# Altium footprint library diode.PCBLIB: 206 footprints (part 6 of 13)
Each footprint in its own frame and in the unit in brackets; x right, y up, seen from the top. Pads: shape width x height; smd on the part's side, far side on the other; paste and mask are expansions set on the pad; w line width, h text height; cw(c..) or ccw(c..) is an arc to the next point about the centre after c.
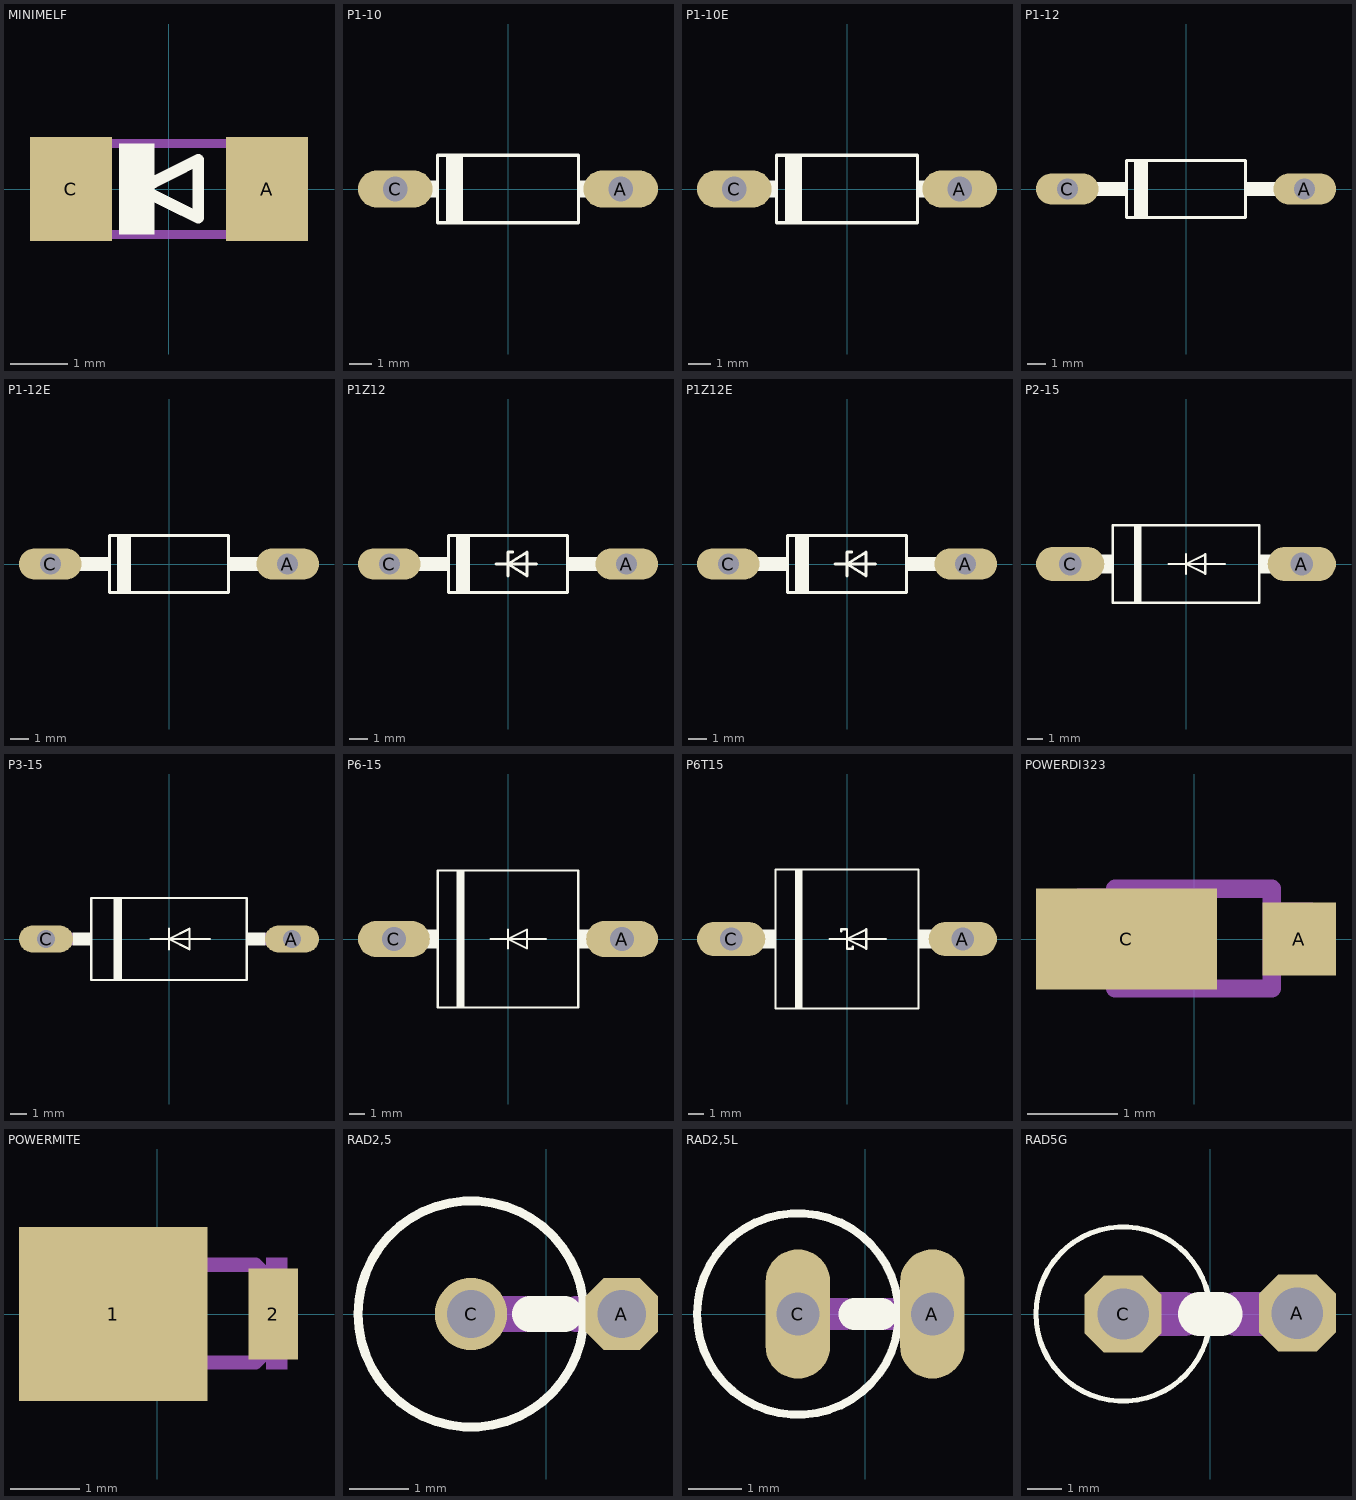
[diagram p5: the footprints below, top view; thin cyan lines are the x and y axes]

## MINIMELF [mil]
pads (2):
  rect 56x71 smd: A(67,0) C(-66.93,0)
Top Overlay:
  rectangle: -34,-31 -10,31
  lines w8: -19.68,0 20,20 20,-19.68 -19.68,0
Mechanical 2:
  text ">NAME" at -65,45 h77.5
Mechanical 4:
  text ">VALUE" at -65,-95 h77.5
Mechanical 16:
  rectangle: -73,-34 -51,34
  rectangle: 51,-34 73,34
  lines w6: -52,-31 52,-31 ; -52,31 52,31

## P1-10 [mil]
pads (2):
  oval 132x66 hole 44: A(200,0) C(-200,0)
Top Overlay:
  rectangle: -110,-60 -80,60
  rectangle: -155,-15 -125,15
  rectangle: 125,-15 155,15
  lines w6: -125,-60 125,-60 125,60 -125,60 -125,-60
Mechanical 2:
  text ">NAME" at -120,75 h77.5
Mechanical 4:
  text ">VALUE" at -125,-120 h77.5
Mechanical 16:
  lines w30: -200,0 -160,0 ; 160,0 200,0

## P1-10E [mil]
pads (2):
  oval 132x66 hole 44: A(200,0) C(-200,0)
Top Overlay:
  rectangle: -110,-60 -80,60
  rectangle: 125,-15 145,15
  rectangle: -145,-15 -125,15
  lines w6: -125,-60 125,-60 125,60 -125,60 -125,-60
Mechanical 2:
  text ">NAME" at -125,75 h77.5
Mechanical 4:
  text ">VALUE" at -125,-125 h77.5
Mechanical 16:
  lines w30: -200,0 -150,0 ; 150,0 200,0

## P1-12 [mil]
pads (2):
  oval 132x66 hole 44: A(250,0) C(-250,0)
Top Overlay:
  rectangle: -110,-60 -80,60
  rectangle: 125,-15 205,15
  rectangle: -205,-15 -125,15
  lines w6: -125,-60 125,-60 125,60 -125,60 -125,-60
Mechanical 2:
  text ">NAME" at -125,75 h77.5
Mechanical 4:
  text ">VALUE" at -125,-120 h77.5
Mechanical 16:
  lines w30: -250,0 -210,0 ; 210,0 250,0

## P1-12E [mil]
pads (2):
  oval 132x66 hole 44: A(250,0) C(-250,0)
Top Overlay:
  rectangle: -110,-60 -80,60
  rectangle: 125,-15 195,15
  rectangle: -195,-15 -125,15
  lines w6: -125,-60 125,-60 125,60 -125,60 -125,-60
Mechanical 2:
  text ">NAME" at -125,75 h77.5
Mechanical 4:
  text ">VALUE" at -125,-120 h77.5
Mechanical 16:
  lines w30: -250,0 -200,0 ; 200,0 250,0

## P1Z12 [mil]
pads (2):
  oval 132x66 hole 44: A(250,0) C(-250,0)
Top Overlay:
  rectangle: -110,-60 -80,60
  rectangle: 125,-15 205,15
  rectangle: -205,-15 -125,15
  lines w6: -25,0 0,0 ; 0,-25 0,0 ; 10,25 0,25 0,0 ; 60,0 0,0 ; 0,0 40,-25 40,25 0,0 ; -125,-60 125,-60 125,60 -125,60 -125,-60
Mechanical 2:
  text ">NAME" at -120,70 h77.5
Mechanical 4:
  text ">VALUE" at -120,-125 h77.5
Mechanical 16:
  lines w30: -250,0 -210,0 ; 210,0 250,0

## P1Z12E [mil]
pads (2):
  oval 132x66 hole 44: A(250,0) C(-250,0)
Top Overlay:
  rectangle: -110,-60 -80,60
  rectangle: 125,-15 195,15
  rectangle: -195,-15 -125,15
  lines w6: -25,0 0,0 ; 0,-25 0,0 ; 10,25 0,25 0,0 ; 60,0 0,0 ; 0,0 40,-25 40,25 0,0 ; -125,-60 125,-60 125,60 -125,60 -125,-60
Mechanical 2:
  text ">NAME" at -125,70 h77.5
Mechanical 4:
  text ">VALUE" at -125,-125 h77.5
Mechanical 16:
  lines w30: -250,0 -200,0 ; 200,0 250,0

## P2-15 [mil]
pads (2):
  oval 177x88.5 hole 59: A(300,0) C(-300,0)
Top Overlay:
  rectangle: -135,-100 -115,100
  rectangle: 190,-25 235,25
  rectangle: -235,-25 -190,25
  lines w6: -45,0 0,0 ; 0,-25 0,0 ; 0,25 0,0 ; 100,0 0,0 ; 0,0 50,25 50,-25 0,0 ; -190,-100 -190,100 190,100 190,-100 -190,-100
Mechanical 2:
  text ">NAME" at -189,111 h108.5
Mechanical 4:
  text ">VALUE" at -193,-185 h108.5
Mechanical 16:
  lines w50: -300,0 -245,0 ; 245,0 300,0

## P3-15 [mil]
pads (2):
  oval 132x66 hole 44: A(300,0) C(-300,0)
Top Overlay:
  rectangle: -135,-100 -115,100
  rectangle: 190,-16 235,16
  rectangle: -235,-16 -190,16
  lines w6: -45,0 0,0 ; 0,-25 0,0 ; 0,25 0,0 ; 100,0 0,0 ; 0,0 50,25 50,-25 0,0 ; -190,-100 -190,100 190,100 190,-100 -190,-100
Mechanical 2:
  text ">NAME" at -189,121 h108.5
Mechanical 4:
  text ">VALUE" at -193,-185 h108.5
Mechanical 16:
  lines w32: -300,0 -240,0 ; 240,0 300,0

## P6-15 [mil]
pads (2):
  oval 189x94.5 hole 63: A(300,0) C(-300,0)
Top Overlay:
  rectangle: -135,-180 -115,180
  rectangle: 185,-25 235,25
  rectangle: -235,-25 -185,25
  lines w6: -45,0 0,0 ; 0,-25 0,0 ; 0,25 0,0 ; 100,0 0,0 ; 0,0 50,25 50,-25 0,0 ; -185,-180 -185,180 185,180 185,-180 -185,-180
Mechanical 2:
  text ">NAME" at -184,191 h108.5
Mechanical 4:
  text ">VALUE" at -93,-130 h108.5
Mechanical 16:
  lines w50: -300,0 -245,0 ; 245,0 300,0

## P6T15 [mil]
pads (2):
  oval 177x88.5 hole 59: A(300,0) C(-300,0)
Top Overlay:
  rectangle: -135,-180 -115,180
  rectangle: 185,-25 235,25
  rectangle: -235,-25 -185,25
  lines w6: -45,0 0,0 ; -15,20 -15,25 0,25 0,0 ; 15,-20 15,-25 0,-25 0,0 ; 100,0 0,0 ; 0,0 50,25 50,-25 0,0 ; -185,-180 -185,180 185,180 185,-180 -185,-180
Mechanical 2:
  text ">NAME" at -184,191 h108.5
Mechanical 4:
  text ">VALUE" at -93,-130 h108.5
Mechanical 16:
  lines w50: -300,0 -245,0 ; 245,0 300,0

## POWERDI323 [mil]
pads (2):
  rect 32x32 smd: A(46,0)
  rect 79x44 smd: C(-29.53,0)
Mechanical 2:
  text ">NAME" at -72.9,31 h77.5
Mechanical 4:
  text ">VALUE" at -72.9,-100.65 h77.5
Mechanical 16:
  rectangle: -51.18,-21.16 -20.67,22
  rectangle: 33,-15.75 52,16
  lines w8: 0,-13.78 -16.73,0 0,14 ; -34.45,-21.65 -34.45,22 34,22 34,-21.65 -34.45,-21.65

## POWERMITE [mil]
pads (2):
  rect 107x99 smd: 1(-25,0)
  rect 28x52 smd: 2(66,0)
Mechanical 2:
  text ">NAME" at -75,75 h77.5
Mechanical 4:
  text ">VALUE" at -75,-100 h77.5
Mechanical 16:
  rectangle: 62,-31.5 74,32
  rectangle: -72.24,-31.5 -60.43,32
  rectangle: -45.67,-25.59 -34.84,26
  lines w8: -62.4,-19.68 -54.53,-27.56 56,-27.56 64,-19.68 ; -62.4,20 -54.53,28 56,28 64,20

## RAD2,5 [mil]
pads (2):
  oct 48x48 hole 32: A(50,0)
  round 48 hole 32: C(-50,0)
Top Overlay:
  circle w6: c-50,0 r75
  lines w24: -11,0 12,0
Mechanical 2:
  text ">NAME" at 35,39 h77.5
Mechanical 4:
  text ">VALUE" at 36,-85 h77.5
Mechanical 16:
  lines w24: -50,0 -15,0 ; 20,0 50,0

## RAD2,5L [mil]
pads (2):
  oval 48x96 hole 32: A(50,0) C(-50,0)
Top Overlay:
  circle w6: c-50,0 r75
  lines w24: -8,0 12,0
Mechanical 2:
  text ">NAME" at 23,63 h77.5
Mechanical 4:
  text ">VALUE" at 23,-98 h77.5
Mechanical 16:
  lines w24: -50,0 -15,0 ; 15,0 50,0

## RAD5G [mil]
pads (2):
  oct 88.5x88.5 hole 59: A(100,1) C(-100,0)
Top Overlay:
  circle w6: c-100,0 r100
  lines w50: -12,0 12,0
Mechanical 2:
  text ">NAME" at -1,65 h77.5
Mechanical 4:
  text ">VALUE" at 9,-99 h77.5
Mechanical 16:
  lines w50: -100,0 -30,0 ; 30,0 100,0